# Altium footprint library Molex 533980371.PcbLib: 1 footprints
Each footprint in its own frame and in the unit in brackets; x right, y up, seen from the top. Pads: shape width x height; smd on the part's side, far side on the other; paste and mask are expansions set on the pad; w line width, h text height; cw(c..) or ccw(c..) is an arc to the next point about the centre after c.
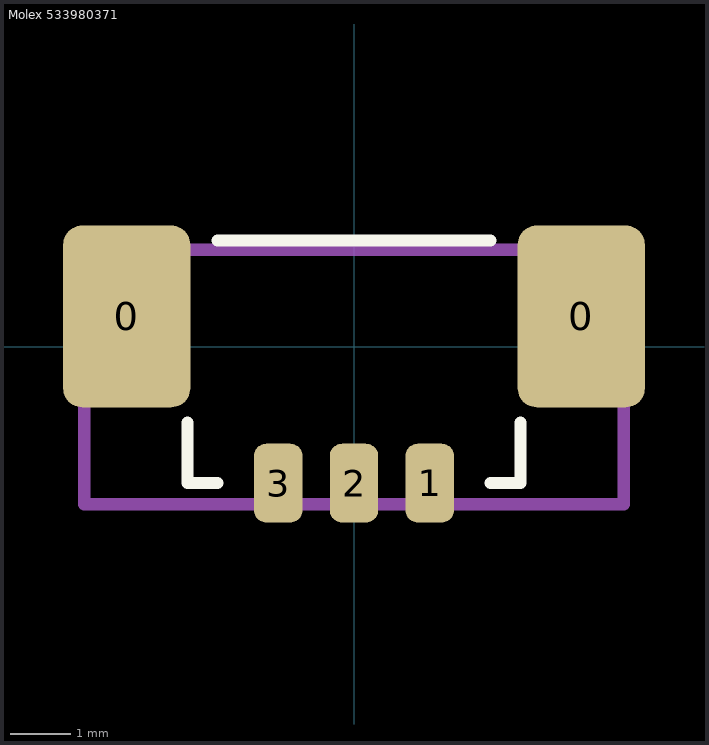
[diagram p0: the footprint, top view; thin cyan lines are the x and y axes]

## Molex 533980371 [mm] "1.25mm Pitch, PicoBlade PCB Header, Single Row, Vertical, Surface Mount"
height 2
pads (5):
  rrect30% 2.1x3 smd: 0(-3.75,0.5) 0(3.75,0.5)
  rrect50% 0.8x1.3 smd: 1(1.25,-2.25) 2(0,-2.25) 3(-1.25,-2.25)
Top Overlay:
  lines w0.2: -2.75,-1.25 -2.75,-2.25 -2.25,-2.25 ; -2.25,1.75 2.25,1.75 ; 2.25,-2.25 2.75,-2.25 2.75,-1.25
Top 3D Body:
  lines w0.2: -4.45,-2.6 -4.45,1.6 4.45,1.6 4.45,-2.6 -4.45,-2.6
3D body "533980371.stp": height 4.74, standoff 0, extent -4.45,-2.6 4.45,1.6